# Altium schematic symbol library BBCMP-P18.SchLib: 1 symbol
Pins are listed as number, name and electrical type; pins without a type are passive.

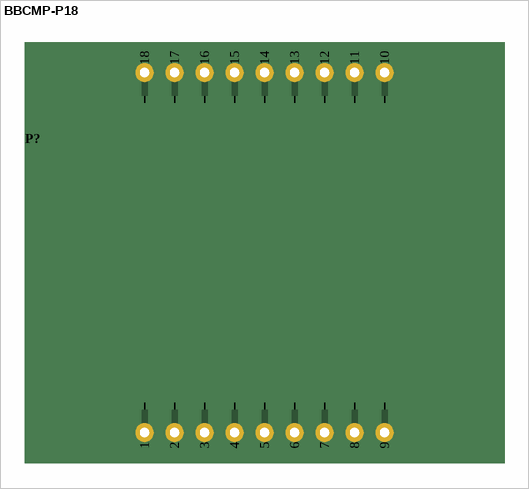
[diagram p0: symbol BBCMP-P18]

## BBCMP-P18
designator P?  (no BOM)
BreadBoard component, 2x9,
pins: 1, 2, 3, 4, 5, 6, 7, 8, 9, 10, 11, 12, 13, 14, 15, 16, 17, 18